# Altium footprint library Lib.PcbLib: 31 footprints (part 1 of 2)
Each footprint in its own frame and in the unit in brackets; x right, y up, seen from the top. Pads: shape width x height; smd on the part's side, far side on the other; paste and mask are expansions set on the pad; w line width, h text height; cw(c..) or ccw(c..) is an arc to the next point about the centre after c.
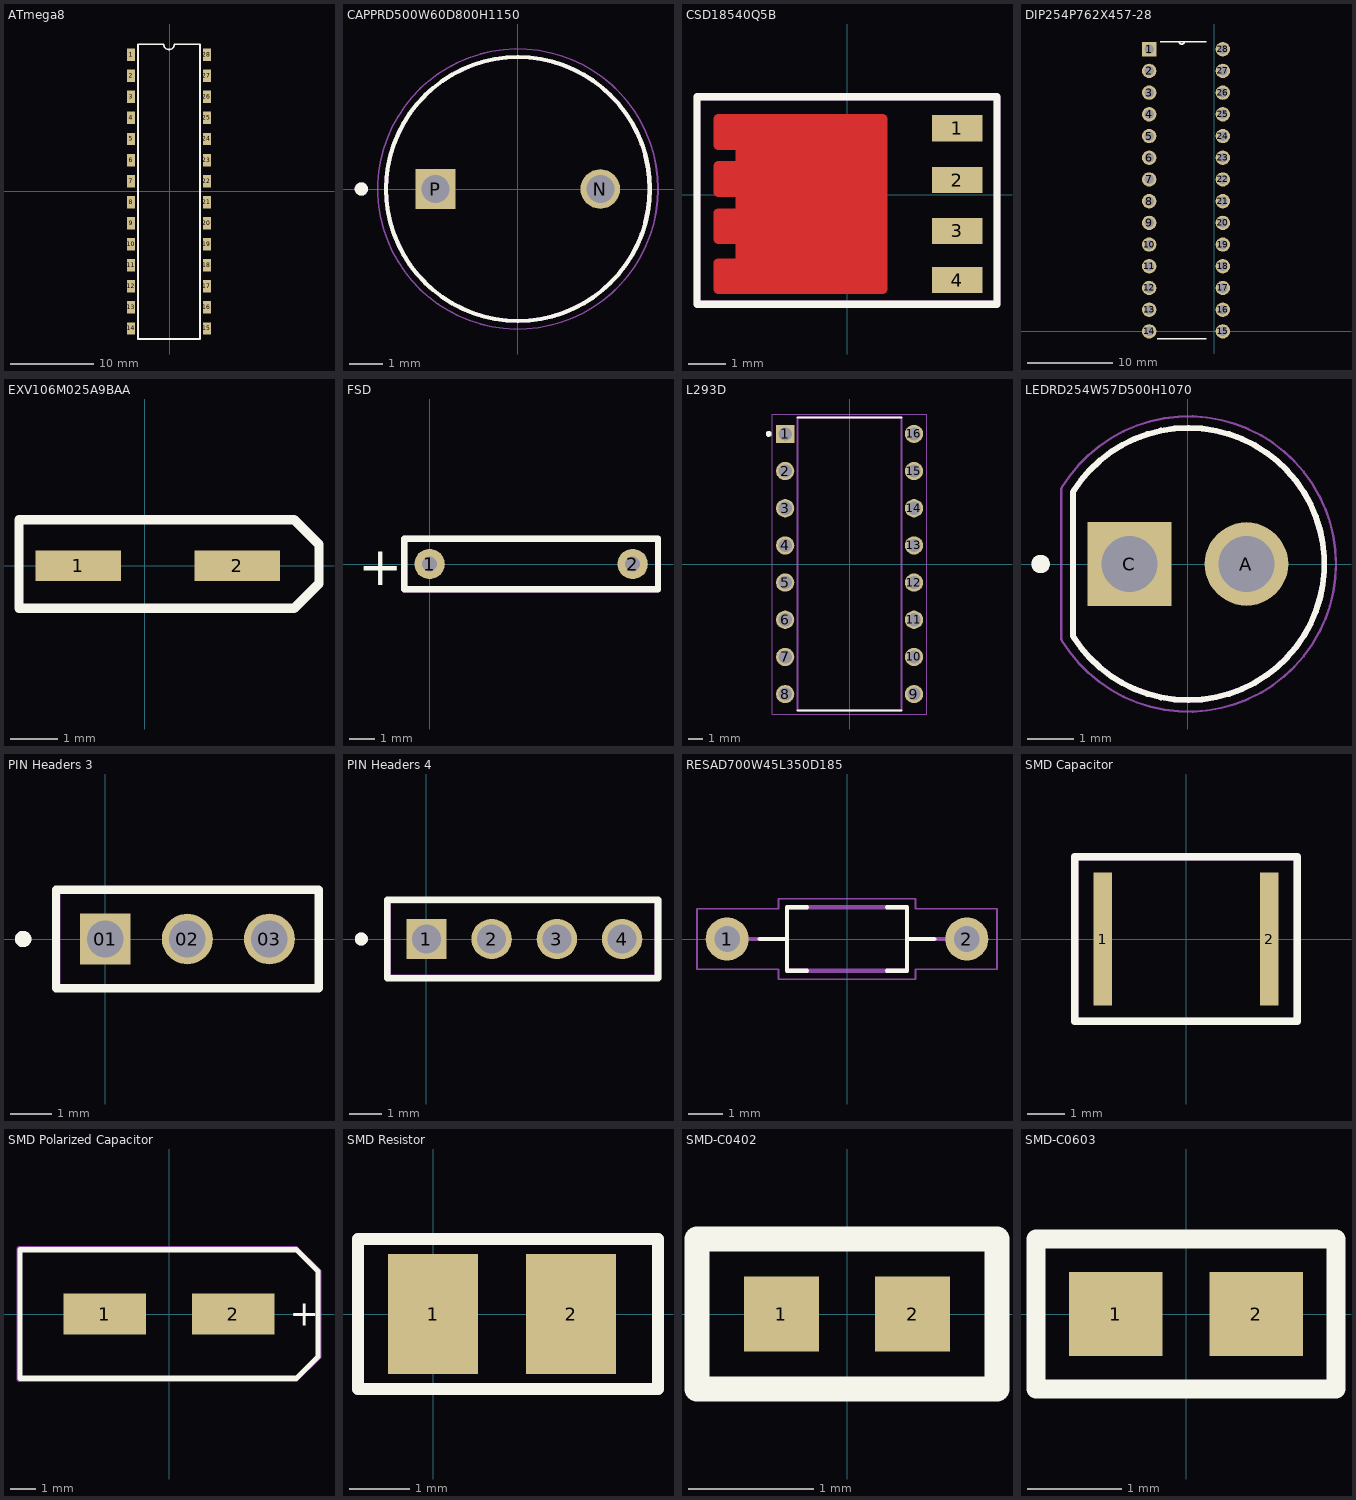
[diagram p0: the footprints below, top view; thin cyan lines are the x and y axes]

## ATmega8 [mm]
pads (28):
  rect 1x1.5 all layers, no hole: 1(-4.7,16.49) 2(-4.7,13.95) 3(-4.7,11.41) 4(-4.7,8.87) 5(-4.7,6.33) 6(-4.7,3.79) 7(-4.7,1.25) 8(-4.7,-1.29) 9(-4.7,-3.83) 10(-4.7,-6.37) 11(-4.7,-8.91) 12(-4.7,-11.45) 13(-4.7,-13.99) 14(-4.7,-16.53) 15(4.46,-16.53) 16(4.46,-13.99) 17(4.46,-11.45) 18(4.46,-8.91) 19(4.46,-6.37) 20(4.46,-3.83) 21(4.46,-1.29) 22(4.46,1.25) 23(4.46,3.79) 24(4.46,6.33) 25(4.46,8.87) 26(4.46,11.41) 27(4.46,13.95) 28(4.46,16.49)
Top Overlay:
  lines w0.2: -3.865,-17.8 3.625,-17.8 3.625,17.76 0.515,17.76 cw(c-0.12,17.76) -0.755,17.76 -3.865,17.76 -3.865,-17.8
3D body "atmega328-pu.stp": height 5.3, standoff -2, extent -5,-17.3 4.676,17.3

## CAPPRD500W60D800H1150 [mm]
pads (2):
  round 1.2 hole 0.85: N(2.5,0)
  rect 1.2x1.2 hole 0.85: P(-2.5,0)
Top Overlay:
  circle w0.2: c-4.75,0 r0.1
  circle w0.127: c0,0 r4
Mechanical 15:
  circle w0.05: c0,0 r4.25
Mechanical 29:
  circle w0.127: c0,0 r4
  circle w0.2: c-4.75,0 r0.1
  text ".Designator" at -3.575,-1.775 h1.52
3D body "step_temp.STEP": height 11.5, standoff -17, extent -4,-4 4,4
3D body "EEUFS2A330B.STEP": height 11.5, standoff -17, extent -4,-4 4,4

## CSD18540Q5B [mm]
pads (4):
  rect 1.372x0.71 smd: 1(2.975,1.8) 2(2.975,0.4) 3(2.975,-0.975) 4(2.975,-2.3)
Top Layer:
  region: -2.2,3.3
  region: 0.965,2.05 0.965,-2.55 -3.475,-2.55 -3.475,-1.84 -2.885,-1.84 -2.885,-1.2 -3.475,-1.2 -3.475,-0.49 -2.885,-0.49 -2.885,0.07 -3.475,0.07 -3.475,0.78 -2.885,0.78 -2.885,1.34 -3.475,1.34 -3.475,2.05
  pour cut-out: -2.875,0.15
  lines w0.254: -3.475,-2.55 0.965,-2.55 0.965,2.05 -3.475,2.05 -3.475,1.34 -2.885,1.34 -2.885,0.78 -3.475,0.78 -3.475,0.07 -2.885,0.07 -2.885,-0.49 -3.475,-0.49 -3.475,-1.2 -2.885,-1.2 -2.885,-1.84 -3.475,-1.84 -3.475,-2.55
Top Overlay:
  lines w0.2: -4.05,2.625 -4.05,-2.95 4.05,-2.95 4.05,2.65 -4.05,2.65
Top Solder:
  region: 1.2,-2.75 -3.7,-2.75 -3.7,-1.65 -3.1,-1.65 -3.1,-1.45 -3.7,-1.45 -3.7,-0.3 -3.1,-0.3 -3.1,-0.15 -3.7,-0.15 -3.7,1 -3.1,1 -3.1,1.15 -3.7,1.15 -3.7,2.25 1.2,2.25
  region: 1.025,2.15
  region: 1.025,2.15
Mechanical 29:
  lines w0.2: -4.05,-2.95 -4.05,2.65 4.05,2.65 4.05,-2.95 -4.05,-2.95
  text ".Designator" at -4.225,2.95 h1.52
3D body "CSD18540Q5B.STEP": height 1.05, standoff 0, extent -2.95,-2.725 3.05,2.275

## DIP254P762X457-28 [mil]
pads (28):
  rect 66x66 hole 44: 1(-300,1300)
  round 66 hole 44: 2(-300,1200) 3(-300,1100) 4(-300,1000) 5(-300,900) 6(-300,800) 7(-300,700) 8(-300,600) 9(-300,500) 10(-300,400) 11(-300,300) 12(-300,200) 13(-300,100) 14(-300,0) 15(39.37,0) 16(39.37,100) 17(39.37,200) 18(39.37,300) 19(39.37,400) 20(39.37,500) 21(39.37,600) 22(39.37,700) 23(39.37,800) 24(39.37,900) 25(39.37,1000) 26(39.37,1100) 27(39.37,1200) 28(39.37,1300)
Top Overlay:
  lines w6: -262,-35 -38,-35 ; -248,1335 -162,1335 ; -38,1335 -138,1335 ; -162,1335 ccw(c-150,1335) -138,1335 ; -162,1335 -138,1335
Mechanical 29:
  text ".Designator" at -284.99,1320 h200
3D body "ATMEGA8A-PU--3DModel-STEP-56544.STEP": height 180.02, standoff -135, extent -329.91,-36.83 70.09,1328.17

## EXV106M025A9BAA [mm]
pads (2):
  rect 1.8x0.65 smd: 1(-1.4,0) 2(1.95,0)
Top Overlay:
  lines w0.2: -2.65,-0.9 3.15,-0.9 3.675,-0.375 3.675,0.45 3.15,0.975 -2.65,0.975 -2.65,-0.9
Mechanical 29:
  text ".Designator" at -2.5,0.7 h1.52
3D body "exv106m025a9baa.stp": height 5.36, standoff -0.3, extent -2.35,-2.2 2.85,2.3

## FSD [mm]
pads (2):
  round 1.2 hole 0.6: 1(0,0) 2(8,0)
Top Overlay:
  lines w0.254: -1,-1 9,-1 9,1 -1,1 -1,-1
  text "+" at -2.819,-0.838 h1.52
Mechanical 29:
  lines w0.254: -1,-1 -1,1 9,1 9,-1 -1,-1
  text ".Designator" at -0.686,-0.711 h1.52
  text "+" at -2.819,-0.838 h1.52
3D body "DO-35_02_VIS.step": height 1.75, standoff -2.54, extent -0.229,-0.858 8.229,0.9

## L293D [mm]
pads (16):
  rect 1.25x1.25 hole 0.9: 1(-4.4,8.89)
  round 1.25 hole 0.9: 2(-4.4,6.35) 3(-4.4,3.81) 4(-4.4,1.27) 5(-4.4,-1.27) 6(-4.4,-3.81) 7(-4.4,-6.35) 8(-4.4,-8.89) 9(4.4,-8.89) 10(4.4,-6.35) 11(4.4,-3.81) 12(4.4,-1.27) 13(4.4,1.27) 14(4.4,3.81) 15(4.4,6.35) 16(4.4,8.89)
Top Overlay:
  circle w0.2: c-5.525,8.89 r0.1
  lines w0.127: -3.55,-10 3.55,-10 ; -3.55,10 3.55,10
Mechanical 13:
  circle w0.2: c-5.525,8.89 r0.1
  lines w0.127: -3.55,-10 -3.55,10 3.55,10 3.55,-10 -3.55,-10
Mechanical 29:
  lines w0.05: -5.275,-10.25 5.275,-10.25 5.275,10.25 -5.275,10.25 -5.275,-10.25
  text ".Designator" at -2.54,10.16 h5.08
3D body "L293D--3DModel-STEP-56544.STEP": height 5.1, standoff -3.3, extent -4.62,-10 4.621,10

## LEDRD254W57D500H1070 [mm]
pads (2):
  round 1.815 hole 1.21: A(1.27,0)
  rect 1.815x1.815 hole 1.21: C(-1.27,0)
Top Overlay:
  circle w0.2: c-3.2,0 r0.1
  lines w0.127: -2.5,-1.566 ccw(c0.006,0) -2.5,1.566 -2.5,-1.566
Mechanical 15:
  lines w0.05: -2.75,-1.64 -2.75,1.64 ; -2.743,-1.652 ccw(c0.007,0) -2.743,1.652
Mechanical 29:
  circle w0.2: c-3.2,0 r0.1
  lines w0.127: -2.5,-1.566 ccw(c0.006,0) -2.5,1.566 -2.5,-1.566
  text ".Designator" at -2.1,-1.975 h1.52
3D body "L08R5000Q1--3DModel-STEP-56544.STEP": height 9.35, standoff -17.55, extent -2.6,-2.95 2.95,2.95

## PIN Headers 3 [mm]
pads (3):
  rect 1.24x1.24 hole 0.89: 01(0,0)
  round 1.24 hole 0.89: 02(2,0) 03(4,0)
Top Overlay:
  circle w0.2: c-2,0 r0.1
  lines w0.2: 0.605,-1.2 1.395,-1.2 ; 2.605,1.2 3.2,1.2 ; 4.605,-1.2 5.2,-1.2 ; 1.395,-1.2 -1.2,-1.2 -1.2,1.2 0.605,1.2 3.395,1.2 5.2,1.2 5.2,-1.2 ; 1.395,-1.2 2.605,-1.2 5.2,-1.2
Mechanical 29:
  circle w0.2: c-2,0 r0.1
  lines w0.2: -1.194,-1.194 5.207,-1.194 5.207,1.194 -1.194,1.194 -1.194,-1.194
  text ".Designatot" at -0.965,-0.813 h1.52
3D body "MTMM-103-07-G-S-070.stp": height 3.28, standoff -8.31, extent -1,-0.999 5,1

## PIN Headers 4 [mm]
pads (4):
  rect 1.24x1.24 hole 0.89: 1(0,0)
  round 1.24 hole 0.89: 2(2,0) 3(4,0) 4(6,0)
Top Overlay:
  circle w0.2: c-2,0 r0.1
  lines w0.2: 0.605,-1.2 1.395,-1.2 ; 2.605,1.2 3.2,1.2 ; 4.605,-1.2 7.1,-1.2 7.1,1.2 3.395,1.2 0.605,1.2 -1.2,1.2 -1.2,-1.2 1.395,-1.2 ; 5.2,-1.2 2.605,-1.2 1.395,-1.2
Mechanical 29:
  circle w0.2: c-2,0 r0.1
  lines w0.2: -1.194,-1.194 -1.194,1.194 7.1,1.194 7.1,-1.194 -1.194,-1.194
  text ".Designatot" at -0.965,-0.813 h1.52
3D body "MTMM-104-08-S-S-330.stp": height 3.71, standoff -8.38, extent -1.054,-0.983 6.946,1.016

## RESAD700W45L350D185 [mm]
pads (2):
  round 1.258 hole 0.75: 1(-3.5,0) 2(3.5,0)
Top Overlay:
  lines w0.127: -2.55,0 -1.75,0 ; -1.17,-0.925 -1.75,-0.925 -1.75,0 ; -1.17,0.925 -1.75,0.925 -1.75,0 ; 1.17,-0.925 1.75,-0.925 1.75,0 ; 1.17,0.925 1.75,0.925 1.75,0 ; 2.55,0 1.75,0
Mechanical 15:
  lines w0.05: -4.38,-0.88 -2,-0.88 -2,-1.175 2,-1.175 2,-0.88 4.38,-0.88 4.38,0.88 2,0.88 2,1.175 -2,1.175 -2,0.88 -4.38,0.88 -4.38,-0.88
Mechanical 29:
  lines w0.127: -2.925,0 -1.75,0 ; 2.925,0 1.75,0 ; -1.75,0 -1.75,-0.925 1.75,-0.925 1.75,0 ; -1.75,0 -1.75,0.925 1.75,0.925 1.75,0
  text ".Designator" at -2.575,-0.75 h1.52
3D body "2-1623928-8.stp": height 1.18, standoff -0.67, extent -3.75,-0.925 3.75,0.925

## SMD Capacitor [mm]
pads (2):
  rect 0.5x3.6 smd: 1(-2.25,0) 2(2.25,0)
Top Overlay:
  lines w0.2: -3,-2.225 3,-2.225 3,2.225 -3,2.225 -3,0.2 -3,-2.225
Mechanical 29:
  lines w0.2: -3,-2.225 -3,2.225 3,2.225 3,-2.225 -3,-2.225
  text ".Designator" at -2.725,-1.825 h1.52
3D body "CGA8N4X7R2J104K230KA.STEP": height 2.5, standoff 0, extent -2.25,-1.6 2.25,1.6

## SMD Polarized Capacitor [mm]
pads (2):
  rect 3.2x1.6 smd: 1(-2.5,0) 2(2.5,0)
Top Overlay:
  lines w0.2: -5.8,-2.5 4.967,-2.5 5.8,-1.667 5.8,1.667 4.967,2.5 -5.8,2.5 -5.8,0 -5.8,-2.5
  text "+" at 4.7,-0.45 h1
Mechanical 29:
  lines w0.2: -5.842,-2.54 4.953,-2.54 5.842,-1.651 5.842,1.651 4.953,2.54 -5.842,2.54 -5.842,-2.54
  text ".Designator" at -5.436,-1.854 h3
  text "+" at 4.699,-0.432 h1
3D body "EEE1HA470XAP.STEP": height 7.7, standoff 0, extent -3.675,-3.3 3.625,3.3

## SMD Resistor [mm]
pads (2):
  rect 1.5x2 smd: 1(0,0) 2(2.3,0)
Top Overlay:
  lines w0.2: -1.25,-1.25 3.75,-1.25 3.75,1.25 -1.25,1.25 -1.25,-1.25
Mechanical 29:
  lines w0.2: -1.25,-1.25 -1.25,1.25 3.75,1.25 3.75,-1.25 -1.25,-1.25
  text ".Designator" at -1,-1 h1.52
3D body "HRG3216P-3002-D-T1.STEP": height 0.55, standoff 0, extent -0.45,-0.8 2.75,0.8

## SMD-C0402 [mm]
pads (2):
  rect 0.6x0.6 smd: 1(-0.525,0) 2(0.525,0)
Top Overlay:
  lines w0.2: -1.2,-0.6 -1.2,0.6 1.2,0.6 1.2,-0.6 -1.2,-0.6
Mechanical 29:
  text ".Designator" at -1.3,0.775 h1.52
3D body "User Library-Capacitor 0402.step": height 0.47, standoff -0.03, extent -0.5,-0.25 0.5,0.25

## SMD-C0603 [mm]
pads (2):
  rect 1x0.9 smd: 1(-0.75,0) 2(0.75,0)
Top Overlay:
  lines w0.2: -1.6,-0.8 1.6,-0.8 1.6,0.8 -1.6,0.8 -1.6,-0.8
Mechanical 29:
  text ".Designator" at -1.575,1.125 h1.52
3D body "vj0603a150jxbt.stp": height 0.45, standoff 0, extent -0.8,-0.4 0.8,0.4